# Altium footprint library Arduino.PcbLib: 2 footprints
Each footprint in its own frame and in the unit in brackets; x right, y up, seen from the top. Pads: shape width x height; smd on the part's side, far side on the other; paste and mask are expansions set on the pad; w line width, h text height; cw(c..) or ccw(c..) is an arc to the next point about the centre after c.
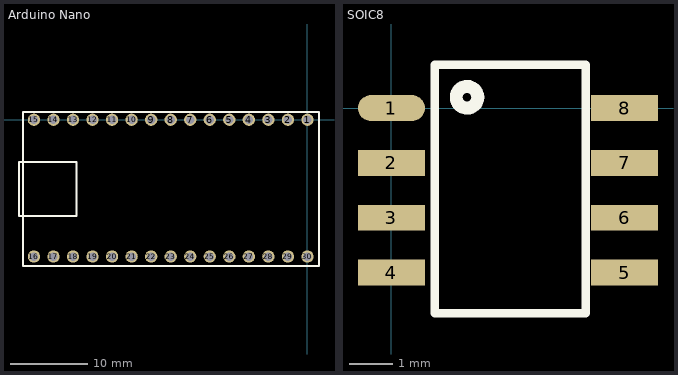
[diagram p0: the footprints below, top view; thin cyan lines are the x and y axes]

## Arduino Nano [mm]
pads (30):
  round 1.6 hole 1.1: 1(0,0) 2(-2.54,0) 3(-5.08,0) 4(-7.62,0) 5(-10.16,0) 6(-12.7,0) 7(-15.24,0) 8(-17.78,0) 9(-20.32,0) 10(-22.86,0) 11(-25.4,0) 12(-27.94,0) 13(-30.48,0) 14(-33.02,0) 15(-35.56,0) 16(-35.56,-17.78) 17(-33.02,-17.78) 18(-30.48,-17.78) 19(-27.94,-17.78) 20(-25.4,-17.78) 21(-22.86,-17.78) 22(-20.32,-17.78) 23(-17.78,-17.78) 24(-15.24,-17.78) 25(-12.7,-17.78) 26(-10.16,-17.78) 27(-7.62,-17.78) 28(-5.08,-17.78) 29(-2.54,-17.78) 30(0,-17.78)
Top Overlay:
  lines w0.254: -37.25,-5.5 -30,-5.5 -30,-12.5 -37.5,-12.5 -37.5,-5.5 -37,-5.5 ; -37,-19 1,-19 1.5,-19 1.5,-4 1.5,1 1,1 -37,1 -37,-19

## SOIC8 [mm]
pads (8):
  oval 1.55x0.6 smd: 1(0,0)
  rect 1.55x0.6 smd: 2(0,-1.27) 3(0,-2.54) 4(0,-3.81) 5(5.4,-3.81) 6(5.4,-2.54) 7(5.4,-1.27) 8(5.4,0)
Top Overlay:
  circle w0.3: c1.75,0.25 r0.25
  lines w0.2: 1,-4.75 4.5,-4.75 4.5,1 1,1 1,0.5 1,0.25 1,-4.5 1,-4.75